# EAGLE library part TPS7A4901 (library ic-TI)
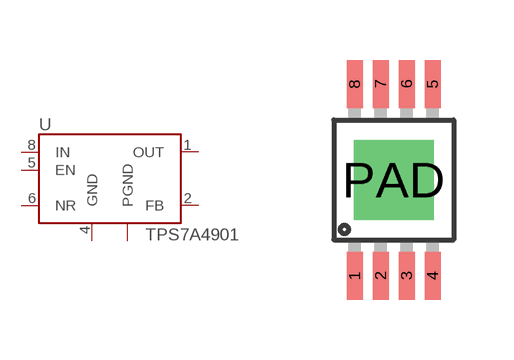
[diagram p9: symbol with the pads of MSOP8-PAD; footprint MSOP8-PAD]

Designator prefix U

## TPS7A4901DGN  [MSOP8-PAD]
1  OUT
2  FB
4  GND
5  EN
6  NR
8  IN
PAD  PGND

## Footprint MSOP8-PAD (pad centres in mm)
smd 0.4 x 1.2: 1 -0.975,-2.4; 2 -0.325,-2.4; 3 0.325,-2.4; 4 0.975,-2.4; 5 0.975,2.4; 6 0.325,2.4; 7 -0.325,2.4; 8 -0.975,2.4
drill 1.3 pad 2 square: PAD 0,0